# Altium schematic symbol library Schlib1.SchLib: 1 symbol
Pins are listed as number, name and electrical type; pins without a type are passive.

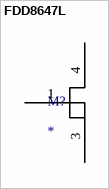
[diagram p0: symbol FDD8647L]

## FDD8647L
designator M?
footprint FDD86471L
pins: 1 G, 3 S, 4 D